# EAGLE library part ATARI-2600 (library a26board)
Atari 2600 cartridge board
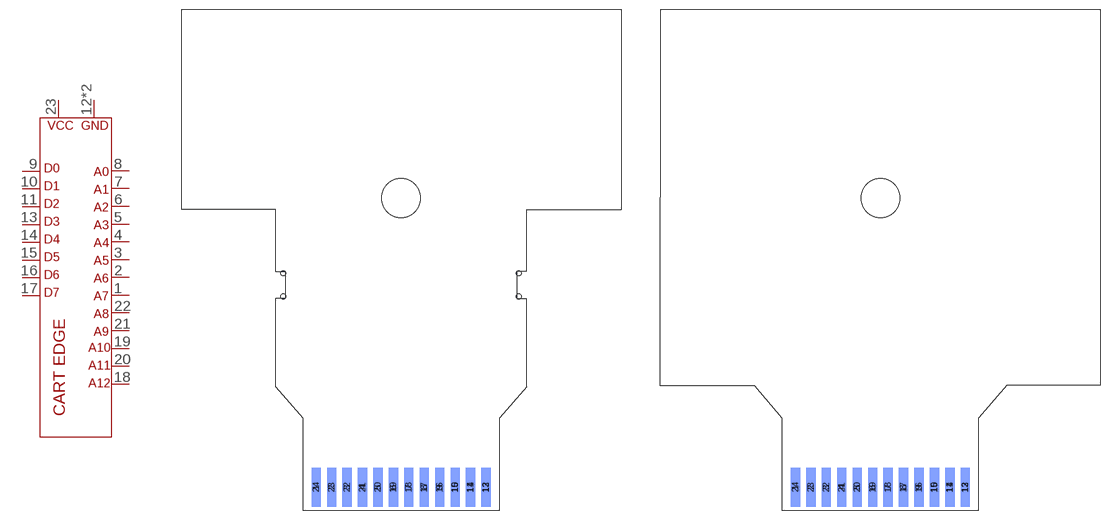
[diagram p0: symbol with the pads of LONG; footprints LONG, HUGE]

Designator prefix J1

## ATARI-2600LONG  [LONG]
1  A7
2  A6
3  A5
4  A4
5  A3
6  A2
7  A1
8  A0
9  D0
10  D1
11  D2
12  GND  pwr
13  D3
14  D4
15  D5
16  D6
17  D7
18  A12
19  A10
20  A11
21  A9
22  A8
23  VCC  pwr
24  GND  pwr

## ATARI-2600HUGE  [HUGE]
Pads as for LONG

## ATARI-2600MED  [MED]
Pads as for LONG

## ATARI-2600MED_NOHOLE  [MED_NOHOLE]
Pads as for LONG

## Footprint LONG (pad centres in mm)
Atari 2600 long cartridge board"
smd 1.524 x 6.477: 1 -13.97,3.81; 2 -11.43,3.81; 3 -8.89,3.81; 4 -6.35,3.81; 5 -3.81,3.81; 6 -1.27,3.81; 7 1.27,3.81; 8 3.81,3.81; 9 6.35,3.81; 10 8.89,3.81; 11 11.43,3.81; 12 13.97,3.81
smd 1.524 x 6.477 bottom: 13 13.97,3.81; 14 11.43,3.81; 15 8.89,3.81; 16 6.35,3.81; 17 3.81,3.81; 18 1.27,3.81; 19 -1.27,3.81; 20 -3.81,3.81; 21 -6.35,3.81; 22 -8.89,3.81; 23 -11.43,3.81; 24 -13.97,3.81
hole 0.8 at -19.367,39.053
hole 0.8 at -19.367,35.242
hole 0.8 at 19.367,39.053
hole 0.8 at 19.367,35.242

## Footprint HUGE (pad centres in mm)
Atari 2600huge cartridge board"
smd 1.524 x 6.477: 1 -13.97,3.81; 2 -11.43,3.81; 3 -8.89,3.81; 4 -6.35,3.81; 5 -3.81,3.81; 6 -1.27,3.81; 7 1.27,3.81; 8 3.81,3.81; 9 6.35,3.81; 10 8.89,3.81; 11 11.43,3.81; 12 13.97,3.81
smd 1.524 x 6.477 bottom: 13 13.97,3.81; 14 11.43,3.81; 15 8.89,3.81; 16 6.35,3.81; 17 3.81,3.81; 18 1.27,3.81; 19 -1.27,3.81; 20 -3.81,3.81; 21 -6.35,3.81; 22 -8.89,3.81; 23 -11.43,3.81; 24 -13.97,3.81

## Footprint MED (pad centres in mm)
Atari 2600med cartridge board"
smd 1.524 x 6.477: 1 -13.97,-46.99; 2 -11.43,-46.99; 3 -8.89,-46.99; 4 -6.35,-46.99; 5 -3.81,-46.99; 6 -1.27,-46.99; 7 1.27,-46.99; 8 3.81,-46.99; 9 6.35,-46.99; 10 8.89,-46.99; 11 11.43,-46.99; 12 13.97,-46.99
smd 1.524 x 6.477 bottom: 13 13.97,-46.99; 14 11.43,-46.99; 15 8.89,-46.99; 16 6.35,-46.99; 17 3.81,-46.99; 18 1.27,-46.99; 19 -1.27,-46.99; 20 -3.81,-46.99; 21 -6.35,-46.99; 22 -8.89,-46.99; 23 -11.43,-46.99; 24 -13.97,-46.99
hole 0.8 at -19.367,-11.748
hole 0.8 at -19.367,-15.557
hole 0.8 at 19.367,-11.748
hole 0.8 at 19.367,-15.557

## Footprint MED_NOHOLE (pad centres in mm)
Atari 2600med cartridge board"
smd 1.524 x 6.477: 1 -13.97,-46.99; 2 -11.43,-46.99; 3 -8.89,-46.99; 4 -6.35,-46.99; 5 -3.81,-46.99; 6 -1.27,-46.99; 7 1.27,-46.99; 8 3.81,-46.99; 9 6.35,-46.99; 10 8.89,-46.99; 11 11.43,-46.99; 12 13.97,-46.99
smd 1.524 x 6.477 bottom: 13 13.97,-46.99; 14 11.43,-46.99; 15 8.89,-46.99; 16 6.35,-46.99; 17 3.81,-46.99; 18 1.27,-46.99; 19 -1.27,-46.99; 20 -3.81,-46.99; 21 -6.35,-46.99; 22 -8.89,-46.99; 23 -11.43,-46.99; 24 -13.97,-46.99
hole 0.8 at -19.367,-11.748
hole 0.8 at -19.367,-15.557
hole 0.8 at 19.367,-11.748
hole 0.8 at 19.367,-15.557